# Altium footprint library Fuse.PcbLib: 1 footprints
Each footprint in its own frame and in the unit in brackets; x right, y up, seen from the top. Pads: shape width x height; smd on the part's side, far side on the other; paste and mask are expansions set on the pad; w line width, h text height; cw(c..) or ccw(c..) is an arc to the next point about the centre after c.
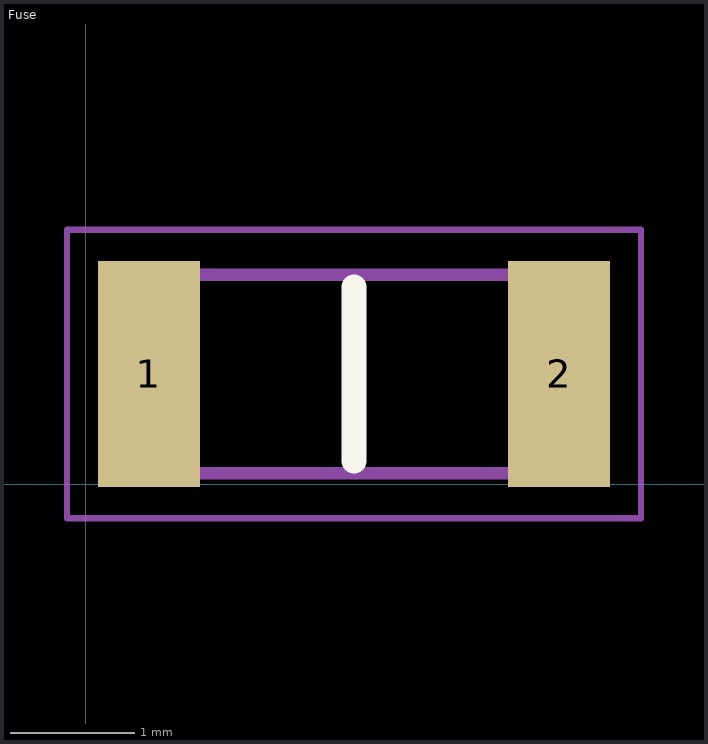
[diagram p0: the footprint, top view; thin cyan lines are the x and y axes]

## Fuse [mm]
pads (2):
  rect 0.82x1.82 smd: 1(0.509,0.889) 2(3.809,0.889)
Top Overlay:
  lines w0.2: 2.159,0.189 2.159,1.589
Mechanical 13:
  lines w0.1: 0.559,0.089 0.559,1.689 3.759,1.689 3.759,0.089 0.559,0.089
Mechanical 15:
  lines w0.05: -0.151,-0.271 -0.151,2.049 4.469,2.049 4.469,-0.271 -0.151,-0.271
3D body "MF-NSMF012-2.stp": height 1.1, standoff 0, extent 0.559,0.089 3.759,1.689